# EAGLE library part RJ45_LED_PLUG (library harrison)
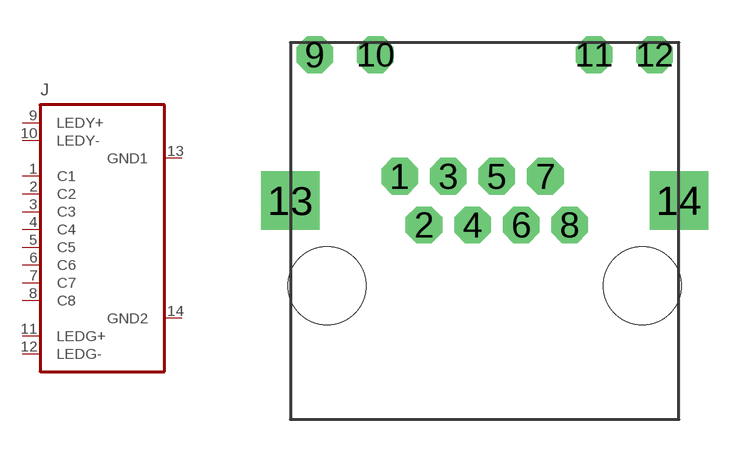
[diagram p25: symbol with the pads of RJ45_LED_PLUG; footprint RJ45_LED_PLUG]

Designator prefix J

## RJ45_LED_PLUG  [RJ45_LED_PLUG]
1  C1  pas
2  C2  pas
3  C3  pas
4  C4  pas
5  C5  pas
6  C6  pas
7  C7  pas
8  C8  pas
9  LEDY+  pas
10  LEDY-  pas
11  LEDG+  pas
12  LEDG-  pas
13  GND1  pwr
14  GND2  pwr

## Footprint RJ45_LED_PLUG (pad centres in mm)
drill 1 octagon: 1 4.5,10; 2 5.5,8; 3 6.5,10; 4 7.5,8; 5 8.5,10; 6 9.5,8; 7 10.5,10; 8 11.5,8; 9 1,15; 10 3.5,15; 11 12.5,15; 12 15,15
drill 1.6 square: 13 0,9; 14 16,9
hole 3.2 at 1.5,5.5
hole 3.2 at 14.5,5.5